# Altium footprint library TPS546C23RVFR.PcbLib: 2 footprints
Each footprint in its own frame and in the unit in brackets; x right, y up, seen from the top. Pads: shape width x height; smd on the part's side, far side on the other; paste and mask are expansions set on the pad; w line width, h text height; cw(c..) or ccw(c..) is an arc to the next point about the centre after c.
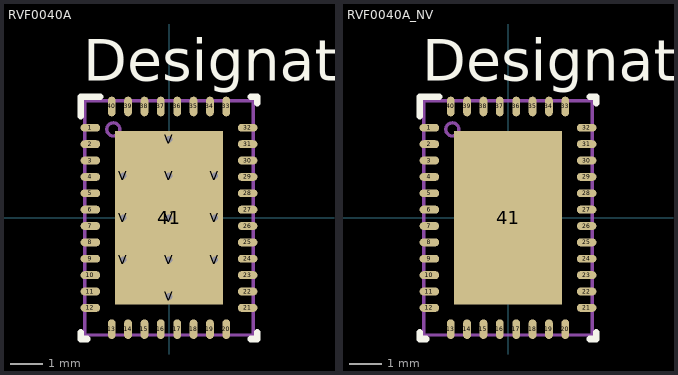
[diagram p0: the footprints below, top view; thin cyan lines are the x and y axes]

## RVF0040A [mm]
pads (52):
  oval 0.6x0.24 smd paste+0 mask+0.051: 1(-2.4,2.75) 2(-2.4,2.25) 3(-2.4,1.75) 4(-2.4,1.25) 5(-2.4,0.75) 6(-2.4,0.25) 7(-2.4,-0.25) 8(-2.4,-0.75) 9(-2.4,-1.25) 10(-2.4,-1.75) 11(-2.4,-2.25) 12(-2.4,-2.75) 21(2.4,-2.75) 22(2.4,-2.25) 23(2.4,-1.75) 24(2.4,-1.25) 25(2.4,-0.75) 26(2.4,-0.25) 27(2.4,0.25) 28(2.4,0.75) 29(2.4,1.25) 30(2.4,1.75) 31(2.4,2.25) 32(2.4,2.75)
  oval 0.24x0.6 smd paste+0 mask+0.051: 13(-1.75,-3.4) 14(-1.25,-3.4) 15(-0.75,-3.4) 16(-0.25,-3.4) 17(0.25,-3.4) 18(0.75,-3.4) 19(1.25,-3.4) 20(1.75,-3.4) 33(1.75,3.4) 34(1.25,3.4) 35(0.75,3.4) 36(0.25,3.4) 37(-0.25,3.4) 38(-0.75,3.4) 39(-1.25,3.4) 40(-1.75,3.4)
  rect 3.3x5.3 smd paste-2.637 mask+0.051: 41(0,0)
  round 0.5 hole 0.203 paste-0.25 mask+0.051: V(-1.4,-1.283) V(-1.4,0) V(-1.4,1.283) V(0,-2.4) V(0,-1.283) V(0,0) V(0,1.283) V(0,2.4) V(1.4,-1.283) V(1.4,0) V(1.4,1.283)
Top Overlay:
  lines w0.2: -2.7,-3.5 -2.7,-3.7 -2.5,-3.7 ; -2.7,3.1 -2.7,3.7 -2.1,3.7 ; 2.5,-3.7 2.7,-3.7 2.7,-3.5 ; 2.5,3.7 2.7,3.7 2.7,3.5
  text "Designator9" at -2.616,4.191 h1.27
  text ".Designator" at -3.492,-0.635 h1.27
Top Paste:
  region: -1.529,1.183 -1.529,0.1 -0.1,0.1 -0.1,1.183
  region: -1.529,-1.383 -1.529,-2.466 -0.1,-2.466 -0.1,-1.383
  region: 0.1,-1.383 0.1,-2.466 1.529,-2.466 1.529,-1.383
  region: 0.1,2.466 0.1,1.383 1.529,1.383 1.529,2.466
  region: -1.529,2.466 -1.529,1.383 -0.1,1.383 -0.1,2.466
  region: -1.529,-0.1 -1.529,-1.183 -0.1,-1.183 -0.1,-0.1
  region: 0.1,-0.1 0.1,-1.183 1.529,-1.183 1.529,-0.1
  region: 0.1,1.183 0.1,0.1 1.529,0.1 1.529,1.183
Mechanical 13:
  circle w0.1: c-1.7,2.7 r0.2
  lines w0.1: -2.575,-3.575 2.575,-3.575 2.575,3.575 -2.575,3.575 -2.575,-3.575
  text ".Designator" at -3.492,-0.635 h1.27

## RVF0040A_NV [mm]
pads (41):
  oval 0.6x0.24 smd paste+0 mask+0.051: 1(-2.4,2.75) 2(-2.4,2.25) 3(-2.4,1.75) 4(-2.4,1.25) 5(-2.4,0.75) 6(-2.4,0.25) 7(-2.4,-0.25) 8(-2.4,-0.75) 9(-2.4,-1.25) 10(-2.4,-1.75) 11(-2.4,-2.25) 12(-2.4,-2.75) 21(2.4,-2.75) 22(2.4,-2.25) 23(2.4,-1.75) 24(2.4,-1.25) 25(2.4,-0.75) 26(2.4,-0.25) 27(2.4,0.25) 28(2.4,0.75) 29(2.4,1.25) 30(2.4,1.75) 31(2.4,2.25) 32(2.4,2.75)
  oval 0.24x0.6 smd paste+0 mask+0.051: 13(-1.75,-3.4) 14(-1.25,-3.4) 15(-0.75,-3.4) 16(-0.25,-3.4) 17(0.25,-3.4) 18(0.75,-3.4) 19(1.25,-3.4) 20(1.75,-3.4) 33(1.75,3.4) 34(1.25,3.4) 35(0.75,3.4) 36(0.25,3.4) 37(-0.25,3.4) 38(-0.75,3.4) 39(-1.25,3.4) 40(-1.75,3.4)
  rect 3.3x5.3 smd paste-2.637 mask+0.051: 41(0,0)
Top Overlay:
  lines w0.2: -2.7,-3.5 -2.7,-3.7 -2.5,-3.7 ; -2.7,3.1 -2.7,3.7 -2.1,3.7 ; 2.5,-3.7 2.7,-3.7 2.7,-3.5 ; 2.5,3.7 2.7,3.7 2.7,3.5
  text "Designator9" at -2.616,4.191 h1.27
  text ".Designator" at -3.492,-0.635 h1.27
Top Paste:
  region: -1.529,1.183 -1.529,0.1 -0.1,0.1 -0.1,1.183
  region: -1.529,-1.383 -1.529,-2.466 -0.1,-2.466 -0.1,-1.383
  region: 0.1,-1.383 0.1,-2.466 1.529,-2.466 1.529,-1.383
  region: 0.1,2.466 0.1,1.383 1.529,1.383 1.529,2.466
  region: -1.529,2.466 -1.529,1.383 -0.1,1.383 -0.1,2.466
  region: -1.529,-0.1 -1.529,-1.183 -0.1,-1.183 -0.1,-0.1
  region: 0.1,-0.1 0.1,-1.183 1.529,-1.183 1.529,-0.1
  region: 0.1,1.183 0.1,0.1 1.529,0.1 1.529,1.183
Mechanical 13:
  circle w0.1: c-1.7,2.7 r0.2
  lines w0.1: -2.575,-3.575 2.575,-3.575 2.575,3.575 -2.575,3.575 -2.575,-3.575
  text ".Designator" at -3.492,-0.635 h1.27